# Altium footprint library transistor-small-signal.PCBLIB: 107 footprints (part 7 of 7)
Each footprint in its own frame and in the unit in brackets; x right, y up, seen from the top. Pads: shape width x height; smd on the part's side, far side on the other; paste and mask are expansions set on the pad; w line width, h text height; cw(c..) or ccw(c..) is an arc to the next point about the centre after c.
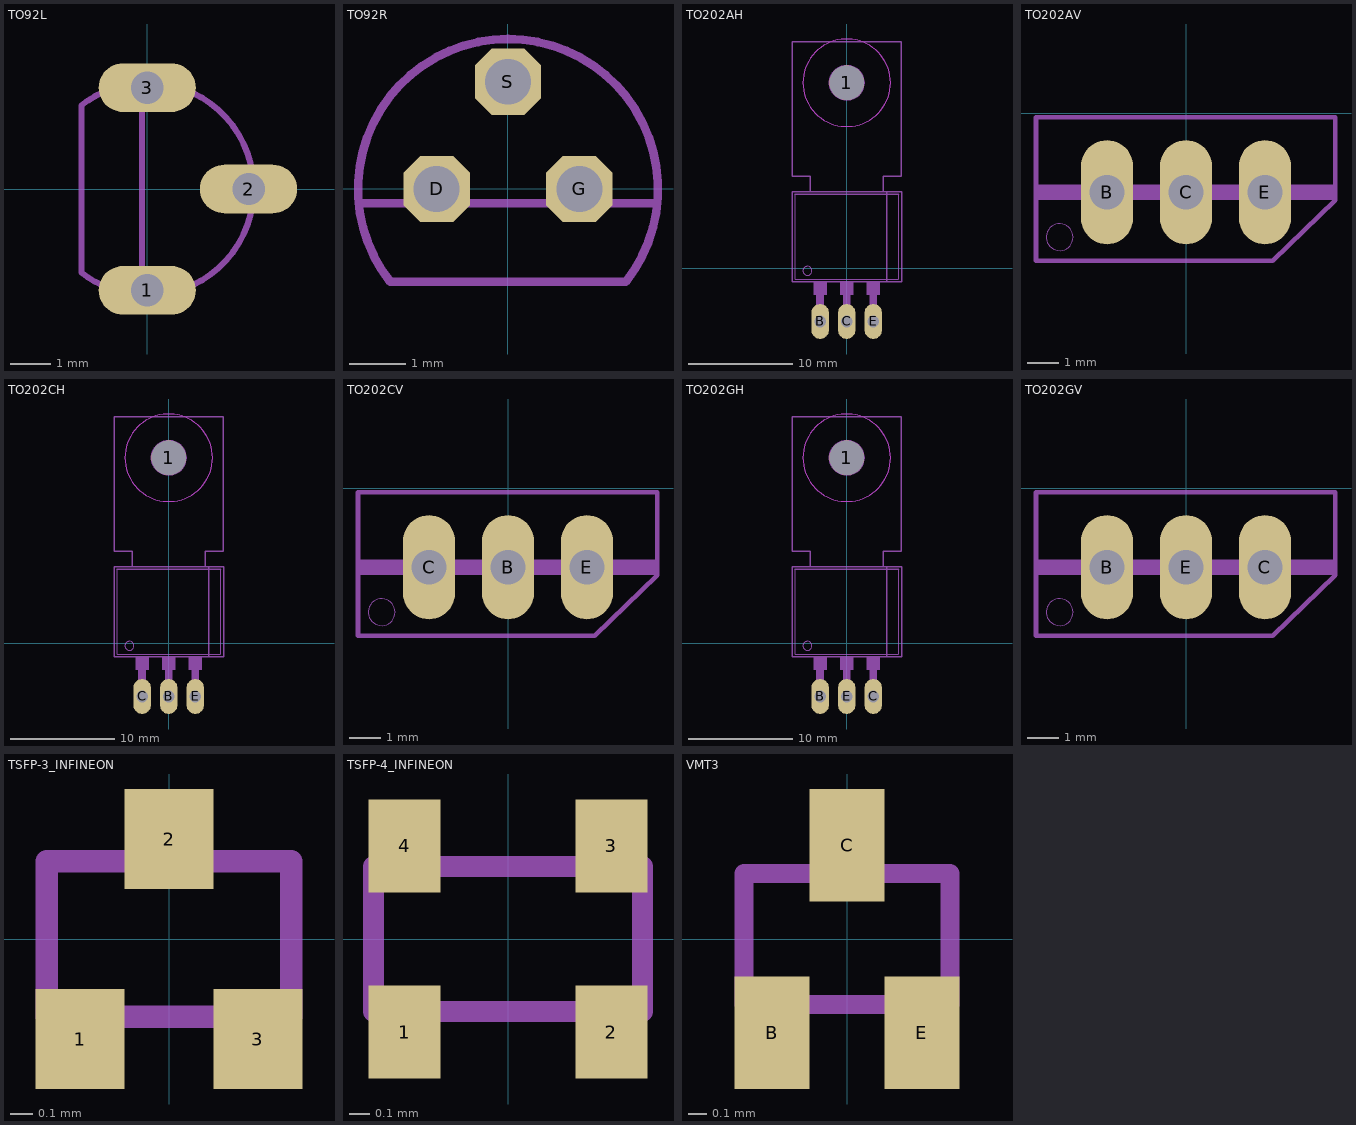
[diagram p6: the footprints below, top view; thin cyan lines are the x and y axes]

## TO92L [mil]
pads (3):
  oval 96x48 hole 32: 1(0,-100) 2(100,0) 3(0,100)
Mechanical 2:
  lines w6: -44.72,95.02 ccw(c0.01,0.02) -65,82.48 -65,-82.48 ccw(c0,-0.01) -43.77,-95.46 ; -5,-55.28 -5,55.28 ; 44.72,-95 ccw(c0,0) 95,-44.72 ; 44.72,95 cw(c0,0) 95,44.72
Mechanical 18:
  lines w6: -44.72,-95 ccw(c0,0) -5,-104.88 ; -44.72,95 cw(c0,0) -5,104.88 ; -5,-55.28 -5,-104.88 ; -5,55.28 -5,104.88 ; 44.72,-95 cw(c0,0) -5,-104.88 ; 44.72,95 ccw(c0,0) -5,104.88 ; 95,-44.72 ccw(c0,0) 95,44.72

## TO92R [mil]
pads (3):
  oct 46.48x46.48 hole 32: D(-50,0) G(50,0) S(0,75)
Mechanical 2:
  lines w6: -104.53,-10 -88.74,-10 ; -82.48,-65 82.48,-65 ccw(c0.02,0) 30.98,100.33 ; -82.46,-65 cw(c0,0) -30.96,100.33 ; -11.26,-10 11.26,-10 ; 88.74,-10 104.53,-10
Mechanical 18:
  lines w6: -88.74,-10 -11.26,-10 ; -30.96,100.33 cw(c0,-0.02) 30.96,100.33 ; 11.26,-10 88.74,-10

## TO202AH [mil]
pads (4):
  round 130 hole 130: 1(0,700)
  oval 66x132 hole 44: B(-100,-200) C(0,-200) E(100,-200)
Mechanical 2:
  circle w0: c-148,-9 r17
  circle w6: c0,700 r65
  rectangle: -25,-100 25,-50
  rectangle: 75,-100 125,-50
  rectangle: -125,-100 -75,-50
  rectangle: 85,-135 115,-100
  rectangle: -15,-135 15,-100
  rectangle: -115,-135 -85,-100
  lines w2: -195,280 -195,-40 195,-40 195,280
  lines w6: -195,280 195,280 ; -138,289 -138,347 -205,347 -205,855 205,855 205,347 138,347 138,289 ; -138,289 -205,289 -205,-50 151,-50 ; -138,289 138,289 ; 138,289 151,289 ; 151,-50 151,289 ; 151,-50 207,-50 207,289 151,289
Mechanical 11 keep-out:
  circle w0: c0,700 r165
Mechanical 12:
  circle w0: c0,700 r165
Mechanical 18:
  rectangle: 85,-200 115,-135
  rectangle: -15,-200 15,-135
  rectangle: -115,-200 -85,-135

## TO202AV [mil]
pads (3):
  oval 66x132 hole 44: B(-100,-100) C(0,-100) E(100,-100)
Mechanical 2:
  circle w0: c-160,-157 r17
  rectangle: 135,-110 190,-90
  rectangle: 35,-110 65,-90
  rectangle: -65,-110 -35,-90
  rectangle: -190,-110 -135,-90
  lines w6: -190,-187 110,-187 189,-110 189,-5 -190,-5 -190,-187
Mechanical 18:
  rectangle: -135,-110 -65,-90
  rectangle: -35,-110 35,-90
  rectangle: 65,-110 135,-90

## TO202CH [mil]
pads (4):
  round 130 hole 130: 1(0,700)
  oval 66x132 hole 44: B(0,-200) C(-100,-200) E(100,-200)
Mechanical 2:
  circle w0: c-148,-9 r17
  circle w6: c0,700 r65
  rectangle: -25,-100 25,-50
  rectangle: 75,-100 125,-50
  rectangle: -125,-100 -75,-50
  rectangle: 85,-135 115,-100
  rectangle: -15,-135 15,-100
  rectangle: -115,-135 -85,-100
  lines w2: -195,280 -195,-40 195,-40 195,280
  lines w6: -195,280 195,280 ; -138,289 -138,347 -205,347 -205,855 205,855 205,347 138,347 138,289 ; -138,289 -205,289 -205,-50 151,-50 ; -138,289 138,289 ; 138,289 151,289 ; 151,-50 151,289 ; 151,-50 207,-50 207,289 151,289
Mechanical 11 keep-out:
  circle w0: c0,700 r165
Mechanical 12:
  circle w0: c0,700 r165
Mechanical 18:
  rectangle: 85,-200 115,-135
  rectangle: -15,-200 15,-135
  rectangle: -115,-200 -85,-135

## TO202CV [mil]
pads (3):
  oval 66x132 hole 44: B(0,-100) C(-100,-100) E(100,-100)
Mechanical 2:
  circle w0: c-160,-157 r17
  rectangle: 135,-110 190,-90
  rectangle: 35,-110 65,-90
  rectangle: -65,-110 -35,-90
  rectangle: -190,-110 -135,-90
  lines w6: -190,-187 110,-187 189,-110 189,-5 -190,-5 -190,-187
Mechanical 18:
  rectangle: -135,-110 -65,-90
  rectangle: -35,-110 35,-90
  rectangle: 65,-110 135,-90

## TO202GH [mil]
pads (4):
  round 130 hole 130: 1(0,700)
  oval 66x132 hole 44: B(-100,-200) C(100,-200) E(0,-200)
Mechanical 2:
  circle w0: c-148,-9 r17
  circle w6: c0,700 r65
  rectangle: -25,-100 25,-50
  rectangle: 75,-100 125,-50
  rectangle: -125,-100 -75,-50
  rectangle: 85,-135 115,-100
  rectangle: -15,-135 15,-100
  rectangle: -115,-135 -85,-100
  lines w2: -195,280 -195,-40 195,-40 195,280
  lines w6: -195,280 195,280 ; -138,289 -138,347 -205,347 -205,855 205,855 205,347 138,347 138,289 ; -138,289 -205,289 -205,-50 151,-50 ; -138,289 138,289 ; 138,289 151,289 ; 151,-50 151,289 ; 151,-50 207,-50 207,289 151,289
Mechanical 11 keep-out:
  circle w0: c0,700 r165
Mechanical 12:
  circle w0: c0,700 r165
Mechanical 18:
  rectangle: 85,-200 115,-135
  rectangle: -15,-200 15,-135
  rectangle: -115,-200 -85,-135

## TO202GV [mil]
pads (3):
  oval 66x132 hole 44: B(-100,-100) C(100,-100) E(0,-100)
Mechanical 2:
  circle w0: c-160,-157 r17
  rectangle: 135,-110 190,-90
  rectangle: 35,-110 65,-90
  rectangle: -65,-110 -35,-90
  rectangle: -190,-110 -135,-90
  lines w6: -190,-187 110,-187 189,-110 189,-5 -190,-5 -190,-187
Mechanical 18:
  rectangle: -135,-110 -65,-90
  rectangle: -35,-110 35,-90
  rectangle: 65,-110 135,-90

## TSFP-3_INFINEON [mil]
pads (3):
  rect 15.75x17.72 smd: 1(-15.75,-17.72) 2(0,17.72) 3(15.75,-17.72)
Mechanical 18:
  rectangle: -3.94,13.78 3.94,23.62
  rectangle: -19.69,-23.62 -11.81,-13.78
  rectangle: 11.81,-23.62 19.69,-13.78
  lines w4: -21.65,-13.78 21.65,-13.78 21.65,13.78 -21.65,13.78 -21.65,-13.78

## TSFP-4_INFINEON [mm]
pads (4):
  rect 0.35x0.45 smd: 1(-0.5,-0.45) 2(0.5,-0.45) 3(0.5,0.45) 4(-0.5,0.45)
Mechanical 18:
  rectangle: -0.6,-0.6 -0.4,-0.35
  rectangle: 0.4,-0.6 0.6,-0.35
  rectangle: 0.4,0.35 0.6,0.6
  rectangle: -0.6,0.35 -0.4,0.6
  lines w0.102: -0.65,-0.35 0.65,-0.35 0.65,0.35 -0.65,0.35 -0.65,-0.35

## VMT3 [mil]
pads (3):
  rect 15.75x23.62 smd: B(-15.75,-19.69) C(0,19.69) E(15.75,-19.69)
Mechanical 2:
  lines w4: -21.65,-3.94 -21.65,13.78 -15.75,13.78 ; -3.94,-13.78 3.94,-13.78 ; 15.75,13.78 21.65,13.78 21.65,-3.94
Mechanical 18:
  rectangle: 11.42,-23.62 20.08,-15.35
  rectangle: -20.08,-23.62 -11.42,-15.35
  rectangle: -6.3,15.35 6.3,23.62
  lines w4: -21.65,-3.94 -21.65,-13.78 -3.94,-13.78 ; -15.75,13.78 15.75,13.78 ; 3.94,-13.78 21.65,-13.78 21.65,-3.94